# Altium schematic symbol library GDZ5V1LP3-7.SchLib: 2 symbols
Pins are listed as number, name and electrical type; pins without a type are passive.

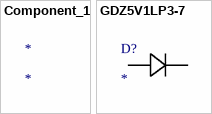
[diagram p0: symbols Component_1 to GDZ5V1LP3-7]

## Component_1
designator *

## GDZ5V1LP3-7
designator D?
No Description Available; Mfr_Name: Diodes Inc
footprint CR_V1LP3-7_DIO
pins: 1 Cathode, 2 Anode